# EAGLE library part JST_1.25_6P (library Scott-Connectors)
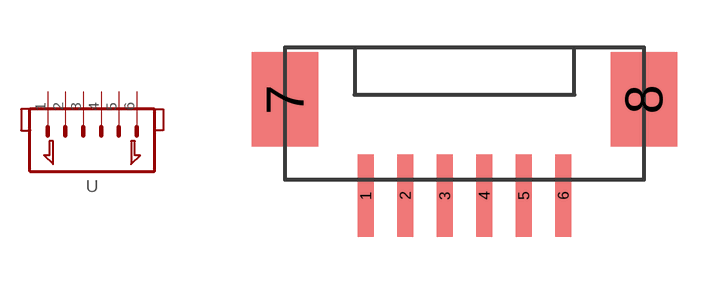
[diagram p1: symbol with the pads of JST1.25_6P; footprint JST1.25_6P]

Designator prefix -

## JST_1.25_6P  [JST1.25_6P]
1  1  pas
2  2  pas
3  3  pas
4  4  pas
5  5  pas
6  6  pas

## Footprint JST1.25_6P (pad centres in mm)
https://item.taobao.com/item.htm?spm=a1z09.2.0.0.22f82e8dZsVtQb&id=526367971594&_u=p1po4ce24ab4
smd 0.5 x 2.6: 1 0,-0.5; 2 1.25,-0.5; 3 2.5,-0.5; 4 3.75,-0.5; 5 5,-0.5; 6 6.25,-0.5
smd 2.1 x 3: 7 -2.55,2.55; 8 8.8,2.55